# Altium footprint library ADS8688A_MODULE.PcbLib: 1 footprints
Each footprint in its own frame and in the unit in brackets; x right, y up, seen from the top. Pads: shape width x height; smd on the part's side, far side on the other; paste and mask are expansions set on the pad; w line width, h text height; cw(c..) or ccw(c..) is an arc to the next point about the centre after c.
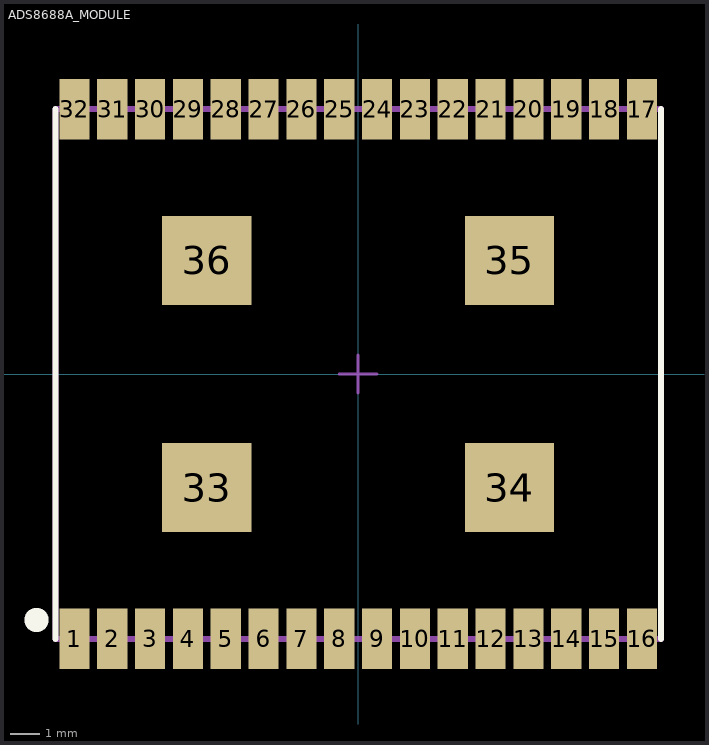
[diagram p0: the footprint, top view; thin cyan lines are the x and y axes]

## ADS8688A_MODULE [mil]
pads (36):
  rect 40x80 smd paste-99999: 1(-375,-350) 2(-325,-350) 3(-275,-350) 4(-225,-350) 5(-175,-350) 6(-125,-350) 7(-75,-350) 8(-25,-350) 9(25,-350) 10(75,-350) 11(125,-350) 12(175,-350) 13(225,-350) 14(275,-350) 15(325,-350) 16(375,-350) 17(375,350) 18(325,350) 19(275,350) 20(225,350) 21(175,350) 22(125,350) 23(75,350) 24(25,350) 25(-25,350) 26(-75,350) 27(-125,350) 28(-175,350) 29(-225,350) 30(-275,350) 31(-325,350) 32(-375,350)
  rect 118.11x118.11 smd paste-5: 33(-200,-150) 34(200,-150) 35(200,150) 36(-200,150)
Top Overlay:
  circle w30: c-425,-325 r1
  lines w7.87: -400,-350 -400,350 ; 400,-350 400,350
Top Paste:
  drawing of 32 lines, arcs and shapes, not listed
Top Assembly:
  lines w7.87: -400,-350 -400,350 400,350 400,-350 -400,-350
  text ".Designator" at 0,7.39 h39.37
Top 3D Body:
  lines w7.87: -400,-350 400,-350 400,350 -400,350 -400,-350
Top Courtyard:
  lines w7.87: -400,-350 400,-350 400,350 -400,350 -400,-350
Top Component Center:
  lines w3.94: -25,0 25,0 ; 0,-25 0,25
3D body "ADS8688.step": height 89.37, standoff 0, extent -400,-350 400,350